# Altium schematic symbol library TPS79333DBVR.Schlib: 1 symbol
Pins are listed as number, name and electrical type; pins without a type are passive.

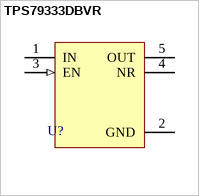
[diagram p0: symbol TPS79333DBVR]

## TPS79333DBVR
designator U?
pins: 1 IN (power), 2 GND (power), 3 EN (in), 4 NR, 5 OUT (power)